# Altium schematic symbol library Schlib2.SchLib: 18 symbols
Pins are listed as number, name and electrical type; pins without a type are passive.

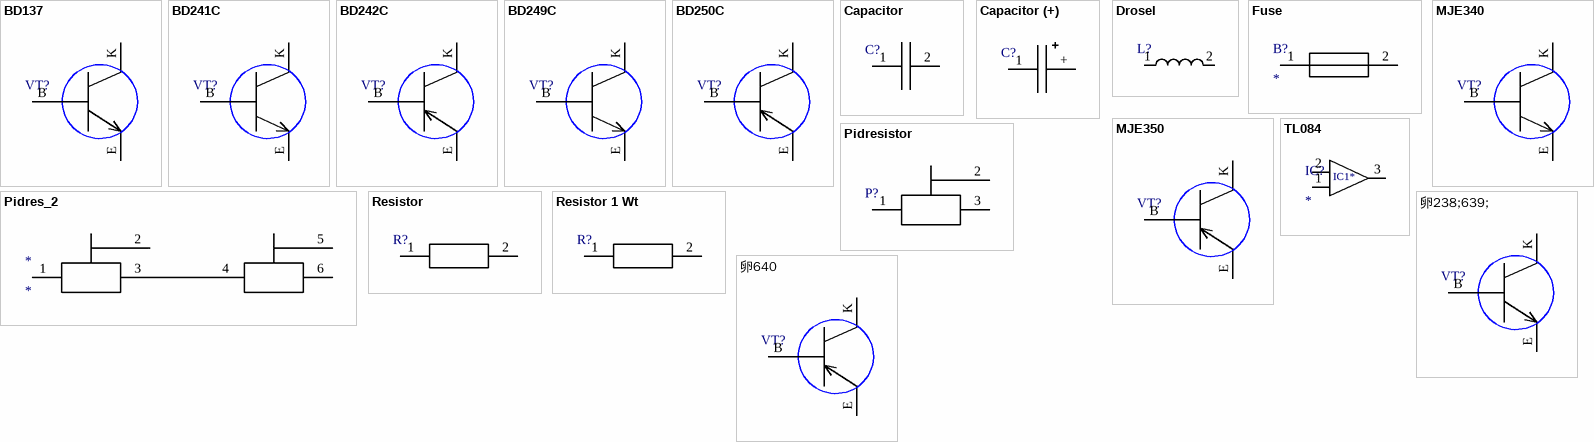
[diagram p0: symbols BD137 to 卵640]

## BD137
designator VT?  (value not drawn)
footprint TO-126(TO-225)
pins: B, E, K

## BD241C
designator VT?  (value not drawn)
footprint TO-220
pins: B, E, K

## BD242C
designator VT?  (value not drawn)
footprint TO-220
pins: B, E, K

## BD249C
designator VT?  (value not drawn)
footprint SOT-93
pins: B, E, K

## BD250C
designator VT?  (value not drawn)
footprint TO-220
pins: B, E, K

## Capacitor
designator C?  (value not drawn)
footprint Capacitor
pins: 1, 2

## Capacitor (+)
designator C?  (value not drawn)
footprint Capacitor (+) 2.5
footprint Capacitor (+) 5
pins: 1, +

## Drosel
designator L?  (value not drawn)
footprint Drosel
pins: 1, 2

## Fuse
designator B?
pins: 1, 2

## MJE340
designator VT?  (value not drawn)
footprint TO-126(TO-225)
pins: B, E, K

## MJE350
designator VT?  (value not drawn)
footprint TO-126(TO-225)
pins: B, E, K

## Pidres_2
designator *
footprint Pidresistor
pins: 1, 2, 3, 4, 5, 6

## Pidresistor
designator P?  (value not drawn)
footprint Pidrest_2
pins: 1, 2, 3

## Resistor
designator R?  (value not drawn)
footprint Resistor
pins: 1, 2

## Resistor 1 Wt
designator R?  (value not drawn)
footprint Resistor 1 Wt
pins: 1, 2

## TL084
designator IC?
footprint DIP8
pins: 1, 2, 3
text: IC1*

## 卵238;639;
designator VT?  (value not drawn)
footprint TO-92
pins: B, E, K

## 卵640
designator VT?  (value not drawn)
footprint TO-92
pins: B, E, K